# Altium schematic symbol library TUSB7340.SchLib: 1 symbol
Pins are listed as number, name and electrical type; pins without a type are passive.

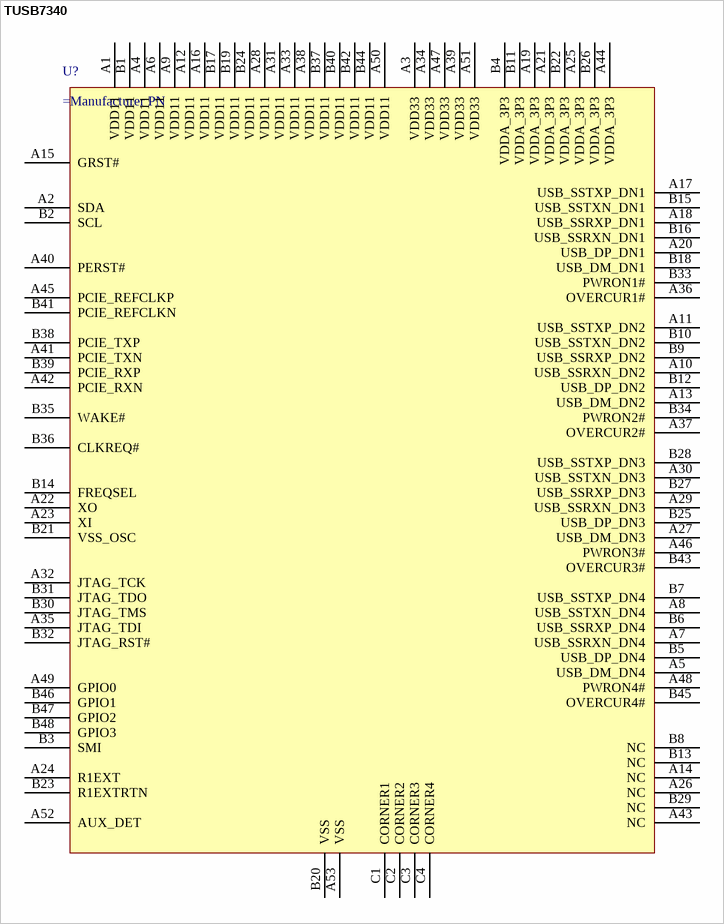
[diagram p0: symbol TUSB7340]

## TUSB7340
designator U?
USB 3.0 xHCI Host Controller
pins: A1 VDD11, A2 SDA, A3 VDD33, A4 VDD11, A5 USB_DM_DN4, A6 VDD11, A7 USB_SSRXN_DN4, A8 USB_SSTXN_DN4, A9 VDD11, A10 USB_SSRXN_DN2, A11 USB_SSTXP_DN2, A12 VDD11, A13 USB_DM_DN2, A14 NC, A15 GRST#, A16 VDD11, A17 USB_SSTXP_DN1, A18 USB_SSRXP_DN1, A19 VDDA_3P3, A20 USB_DP_DN1, A21 VDDA_3P3, A22 XO, A23 XI, A24 R1EXT, A25 VDDA_3P3, A26 NC, A27 USB_DM_DN3, A28 VDD11, A29 USB_SSRXN_DN3, A30 USB_SSTXN_DN3, A31 VDD11, A32 JTAG_TCK, A33 VDD11, A34 VDD33, A35 JTAG_TDI, A36 OVERCUR1#, A37 OVERCUR2#, A38 VDD11, A39 VDD33, A40 PERST#, A41 PCIE_TXN, A42 PCIE_RXN, A43 NC, A44 VDDA_3P3, A45 PCIE_REFCLKP, A46 PWRON3#, A47 VDD33, A48 PWRON4#, A49 GPIO0, A50 VDD11, A51 VDD33, A52 AUX_DET, A53 VSS, B1 VDD11, B2 SCL, B3 SMI, B4 VDDA_3P3, B5 USB_DP_DN4, B6 USB_SSRXP_DN4, B7 USB_SSTXP_DN4, B8 NC, B9 USB_SSRXP_DN2, B10 USB_SSTXN_DN2, B11 VDDA_3P3, B12 USB_DP_DN2, B13 NC, B14 FREQSEL, B15 USB_SSTXN_DN1, B16 USB_SSRXN_DN1, B17 VDD11, B18 USB_DM_DN1, B19 VDD11, B20 VSS, B21 VSS_OSC, B22 VDDA_3P3, B23 R1EXTRTN, B24 VDD11, B25 USB_DP_DN3, B26 VDDA_3P3, B27 USB_SSRXP_DN3, B28 USB_SSTXP_DN3, B29 NC, B30 JTAG_TMS, B31 JTAG_TDO, B32 JTAG_RST#, B33 PWRON1#, B34 PWRON2#, B35 WAKE#, B36 CLKREQ#, B37 VDD11, B38 PCIE_TXP, B39 PCIE_RXP, B40 VDD11, B41 PCIE_REFCLKN, B42 VDD11, B43 OVERCUR3#, B44 VDD11, B45 OVERCUR4#, B46 GPIO1, B47 GPIO2, B48 GPIO3, C1 CORNER1, C2 CORNER2, C3 CORNER3, C4 CORNER4